# EAGLE library part ATMEGA* (library atmel-2005)
MICROCONTROLLER 64/128/256 Kbytes FLASH 4 Kbytes EEPROM 8 Kbytes SRAM 86 General Purpose I/O pins 12-channels16-bit PWM 4 x Serial USARTs 16-channels 10-bit A/D
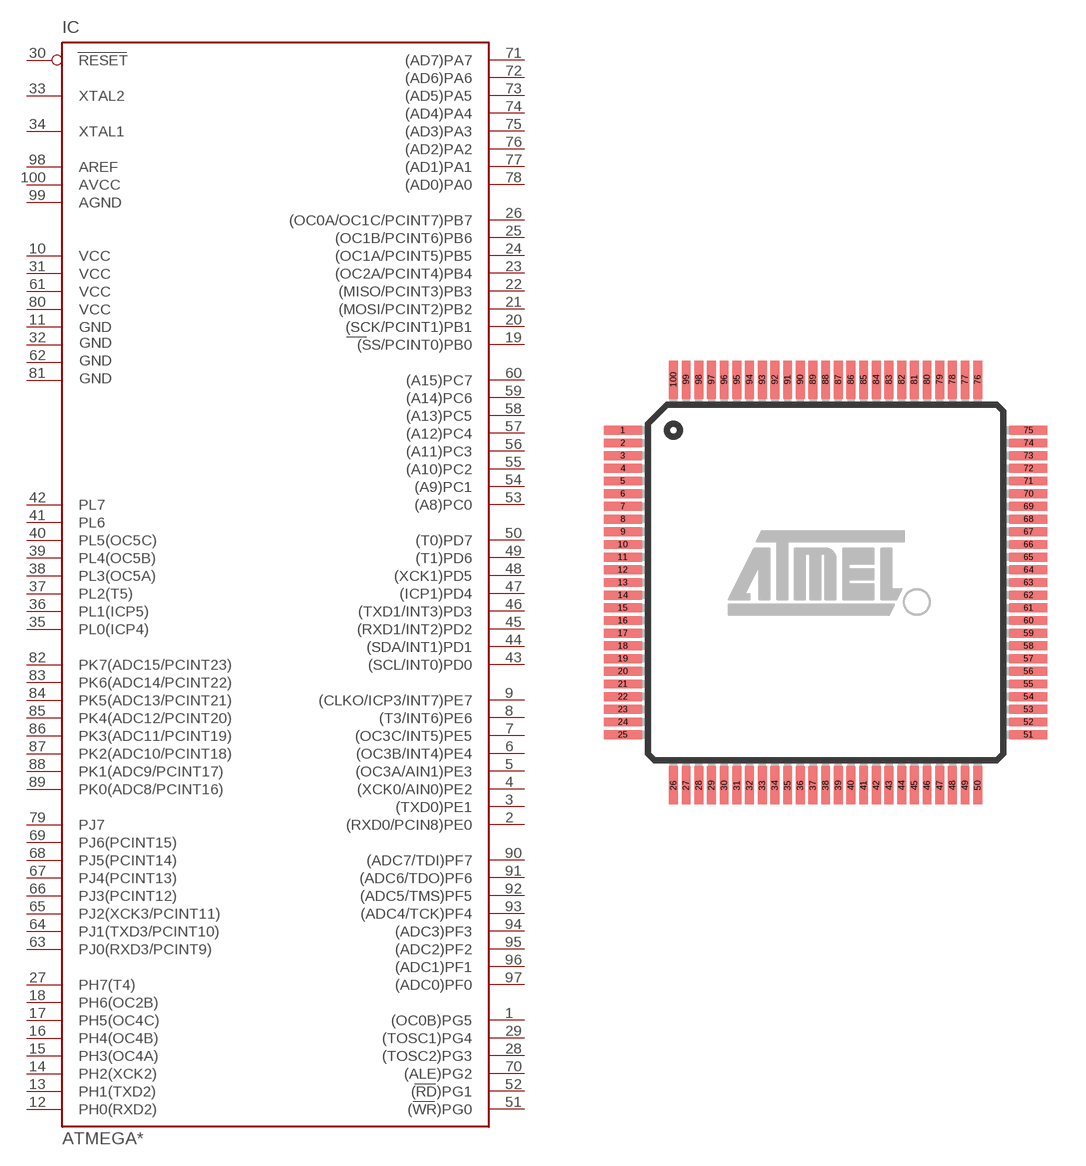
[diagram p0: symbol with the pads of TQFP100; footprint TQFP100]

Designator prefix IC

## ATMEGA1280-16AI, ATMEGA1280V-8AI, ATMEGA2560-16AI, ATMEGA2560V-8AI, ATMEGA640-16AI, ATMEGA640V-8AI  [TQFP100]
1  (OC0B)PG5
2  (RXD0/PCIN8)PE0
3  (TXD0)PE1
4  (XCK0/AIN0)PE2
5  (OC3A/AIN1)PE3
6  (OC3B/INT4)PE4
7  (OC3C/INT5)PE5
8  (T3/INT6)PE6
9  (CLKO/ICP3/INT7)PE7
10  VCC  pwr
11  GND  pwr
12  PH0(RXD2)
13  PH1(TXD2)
14  PH2(XCK2)
15  PH3(OC4A)
16  PH4(OC4B)
17  PH5(OC4C)
18  PH6(OC2B)
19  (SS/PCINT0)PB0
20  (SCK/PCINT1)PB1
21  (MOSI/PCINT2)PB2
22  (MISO/PCINT3)PB3
23  (OC2A/PCINT4)PB4
24  (OC1A/PCINT5)PB5
25  (OC1B/PCINT6)PB6
26  (OC0A/OC1C/PCINT7)PB7
27  PH7(T4)
28  (TOSC2)PG3
29  (TOSC1)PG4
30  RESET  in
31  VCC1  pwr
32  GND1  pwr
33  XTAL2  out
34  XTAL1  in
35  PL0(ICP4)
36  PL1(ICP5)
37  PL2(T5)
38  PL3(OC5A)
39  PL4(OC5B)
40  PL5(OC5C)
41  PL6
42  PL7
43  (SCL/INT0)PD0
44  (SDA/INT1)PD1
45  (RXD1/INT2)PD2
46  (TXD1/INT3)PD3
47  (ICP1)PD4
48  (XCK1)PD5
49  (T1)PD6
50  (T0)PD7
51  (WR)PG0
52  (RD)PG1
53  (A8)PC0
54  (A9)PC1
55  (A10)PC2
56  (A11)PC3
57  (A12)PC4
58  (A13)PC5
59  (A14)PC6
60  (A15)PC7
61  VCC2  pwr
62  GND2  pwr
63  PJ0(RXD3/PCINT9)
64  PJ1(TXD3/PCINT10)
65  PJ2(XCK3/PCINT11)
66  PJ3(PCINT12)
67  PJ4(PCINT13)
68  PJ5(PCINT14)
69  PJ6(PCINT15)
70  (ALE)PG2
71  (AD7)PA7
72  (AD6)PA6
73  (AD5)PA5
74  (AD4)PA4
75  (AD3)PA3
76  (AD2)PA2
77  (AD1)PA1
78  (AD0)PA0
79  PJ7
80  VCC3  pwr
81  GND3  pwr
82  PK7(ADC15/PCINT23)
83  PK6(ADC14/PCINT22)
84  PK5(ADC13/PCINT21)
85  PK4(ADC12/PCINT20)
86  PK3(ADC11/PCINT19)
87  PK2(ADC10/PCINT18)
88  PK1(ADC9/PCINT17)
89  PK0(ADC8/PCINT16)
90  (ADC7/TDI)PF7
91  (ADC6/TDO)PF6
92  (ADC5/TMS)PF5
93  (ADC4/TCK)PF4
94  (ADC3)PF3
95  (ADC2)PF2
96  (ADC1)PF1
97  (ADC0)PF0
98  AREF
99  AGND  pwr
100  AVCC  pwr

## ATMEGA1280-16AU, ATMEGA1280V-8AU, ATMEGA2560-16AU, ATMEGA2560V-8AU, ATMEGA640-16AU, ATMEGA640V-8AU  [TQFP100]
Pads as for TQFP100

## Footprint TQFP100 (pad centres in mm)
100-lead Thin Quad Flat Pack Package Outline
smd 1.5 x 0.35: 1 -8,6; 2 -8,5.5; 3 -8,5; 4 -8,4.5; 5 -8,4; 6 -8,3.5; 7 -8,3; 8 -8,2.5; 9 -8,2; 10 -8,1.5; 11 -8,1; 12 -8,0.5; 13 -8,0; 14 -8,-0.5; 15 -8,-1; 16 -8,-1.5; 17 -8,-2; 18 -8,-2.5; 19 -8,-3; 20 -8,-3.5; 21 -8,-4; 22 -8,-4.5; 23 -8,-5; 24 -8,-5.5; 25 -8,-6; 51 8,-6; 52 8,-5.5; 53 8,-5; 54 8,-4.5; 55 8,-4; 56 8,-3.5; 57 8,-3; 58 8,-2.5; 59 8,-2; 60 8,-1.5; 61 8,-1; 62 8,-0.5; 63 8,0; 64 8,0.5; 65 8,1; 66 8,1.5; 67 8,2; 68 8,2.5; 69 8,3; 70 8,3.5; 71 8,4; 72 8,4.5; 73 8,5; 74 8,5.5; 75 8,6
smd 0.35 x 1.5: 26 -6,-8; 27 -5.5,-8; 28 -5,-8; 29 -4.5,-8; 30 -4,-8; 31 -3.5,-8; 32 -3,-8; 33 -2.5,-8; 34 -2,-8; 35 -1.5,-8; 36 -1,-8; 37 -0.5,-8; 38 0,-8; 39 0.5,-8; 40 1,-8; 41 1.5,-8; 42 2,-8; 43 2.5,-8; 44 3,-8; 45 3.5,-8; 46 4,-8; 47 4.5,-8; 48 5,-8; 49 5.5,-8; 50 6,-8; 76 6,8; 77 5.5,8; 78 5,8; 79 4.5,8; 80 4,8; 81 3.5,8; 82 3,8; 83 2.5,8; 84 2,8; 85 1.5,8; 86 1,8; 87 0.5,8; 88 0,8; 89 -0.5,8; 90 -1,8; 91 -1.5,8; 92 -2,8; 93 -2.5,8; 94 -3,8; 95 -3.5,8; 96 -4,8; 97 -4.5,8; 98 -5,8; 99 -5.5,8; 100 -6,8